# EAGLE library part SST26VF064B (library Microchip)
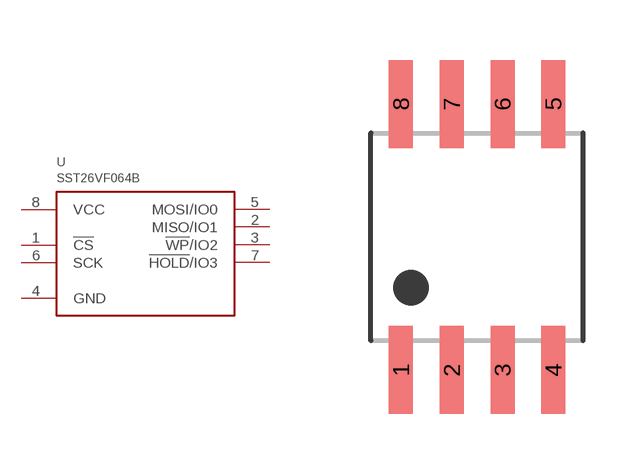
[diagram p9: symbol with the pads of WSOIC8; footprint WSOIC8]

Designator prefix U

## SST26VF064B  [WSOIC8]
1  !CS!  in
2  MISO/IO1  out
3  !WP!/IO2  in
4  GND  pwr
5  MOSI/IO0  in
6  SCK  in
7  !HOLD!/IO3  in
8  VCC  pwr

## Footprint WSOIC8 (pad centres in mm)
smd 0.6 x 2.2: 1 -1.905,-3.33; 2 -0.635,-3.33; 3 0.635,-3.33; 4 1.905,-3.33; 5 1.905,3.33; 6 0.635,3.33; 7 -0.635,3.33; 8 -1.905,3.33